# EAGLE library part MCM6226A (library memory-sram)
MEMORY
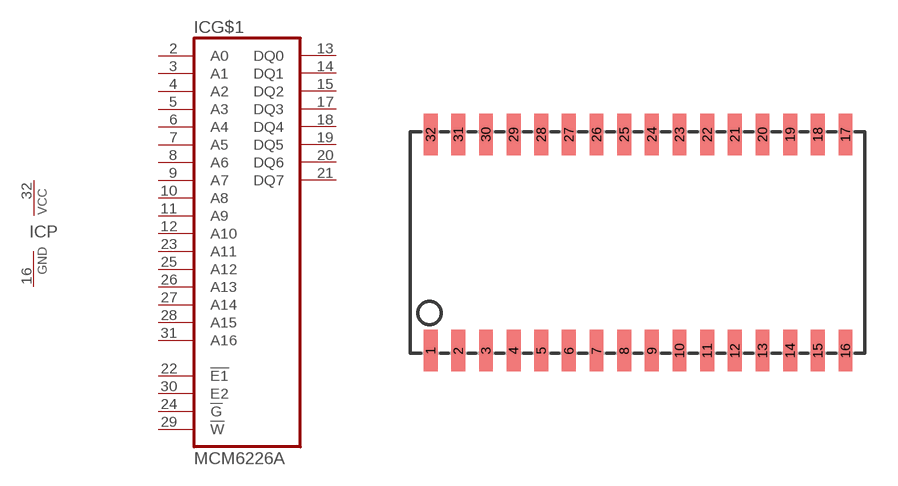
[diagram p14: symbol with the pads of SOJ32/4; footprint SOJ32/4]

Designator prefix IC; gates G$1=CM6226A P=PWRN

## MCM6226A  [SOJ32/4]
2  G$1:A0  in
3  G$1:A1  in
4  G$1:A2  in
5  G$1:A3  in
6  G$1:A4  in
7  G$1:A5  in
8  G$1:A6  in
9  G$1:A7  in
10  G$1:A8  in
11  G$1:A9  in
12  G$1:A10  in
13  G$1:DQ0
14  G$1:DQ1
15  G$1:DQ2
16  P:GND  pwr
17  G$1:DQ3
18  G$1:DQ4
19  G$1:DQ5
20  G$1:DQ6
21  G$1:DQ7
22  G$1:!E1  in
23  G$1:A11  in
24  G$1:!G  in
25  G$1:A12  in
26  G$1:A13  in
27  G$1:A14  in
28  G$1:A15  in
29  G$1:!W  in
30  G$1:E2  in
31  G$1:A16  in
32  P:VCC  pwr

## Footprint SOJ32/4 (pad centres in mm)
Small Outline J-Bend
smd 0.635 x 1.905: 1 -9.525,-4.966; 2 -8.255,-4.966; 3 -6.985,-4.966; 4 -5.715,-4.966; 5 -4.445,-4.966; 6 -3.175,-4.966; 7 -1.905,-4.966; 8 -0.635,-4.966; 9 0.635,-4.966; 10 1.905,-4.966; 11 3.175,-4.966; 12 4.445,-4.966; 13 5.715,-4.966; 14 6.985,-4.966; 15 8.255,-4.966; 16 9.525,-4.966; 17 9.525,4.966; 18 8.255,4.966; 19 6.985,4.966; 20 5.715,4.966; 21 4.445,4.966; 22 3.175,4.966; 23 1.905,4.966; 24 0.635,4.966; 25 -0.635,4.966; 26 -1.905,4.966; 27 -3.175,4.966; 28 -4.445,4.966; 29 -5.715,4.966; 30 -6.985,4.966; 31 -8.255,4.966; 32 -9.525,4.966